# EAGLE library part 6250XX22121_62504422121 (library 61201021621_Eagle_WR-BHD_rev19b)
WR-BHD 2.00 mm Male Angled Box Header w. Lever KIND PROPERTIES: Pitch 2 mm Gender:Male MATERIAL PROPERTIES: Insulator Material:PBT Insulator Flammability Rating UL94 V-0 Insulator Color:Black Contact Material :Copper Alloy Contact Plating :Gold Contact Type: Stamped GENERAL INFORMATION: Operating Temperature:-40 °C up to +125 °C Compliance:RoHS Working Voltage: 250 V (AC) Withstanding Voltage:500 V (AC) Contact Resistance: 20 mΩ Insulation Resistance:1000 MΩ CERTIFICATION UL Approval:E323964 PACKAGING PROPERTIES Packaging :Tray <https://katalog.we-online.com/media/images/v2/o32938v209%20Family_WR-BHD_6250xx22121.jpg> Details see: https://katalog.we-online.com/en/em/BHD_2_00_MALE_ANGLED_BOX_HEADER_WITH_LEVER_6250XX22121 Updated by Yingchun,Shan 2019-11-04 2019 (C) Würth Elektronik
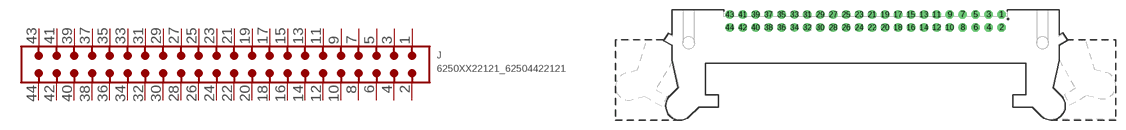
[diagram p107: symbol with the pads of 62504422121; footprint 62504422121]

Designator prefix J

## 6250XX22121_62504422121 (CONTACT-RESISTANCE: 20mOhm; DATASHEET-URL: https://katalog.we-online.com/em/datasheet/62504422121.pdf; GENDER: Male; IR: 2A; L: 59.7mm; MATES: WR-BHD 2.0mm Female IDC Connector with Strain Relief; MOUNT: THT; PACKAGING: Tray; PART-NUMBER: 62504422121; PINS: 44; PITCH: 2mm; TOL-R: max.; TYPE: Angled; WORKING-VOLTAGE: 250V(AC))  [62504422121]
1  1  pas
2  2  pas
3  3  pas
4  4  pas
5  5  pas
6  6  pas
7  7  pas
8  8  pas
9  9  pas
10  10  pas
11  11  pas
12  12  pas
13  13  pas
14  14  pas
15  15  pas
16  16  pas
17  17  pas
18  18  pas
19  19  pas
20  20  pas
21  21  pas
22  22  pas
23  23  pas
24  24  pas
25  25  pas
26  26  pas
27  27  pas
28  28  pas
29  29  pas
30  30  pas
31  31  pas
32  32  pas
33  33  pas
34  34  pas
35  35  pas
36  36  pas
37  37  pas
38  38  pas
39  39  pas
40  40  pas
41  41  pas
42  42  pas
43  43  pas
44  44  pas

## Footprint 62504422121 (pad centres in mm)
WR-BHD 2.00 mm Male Angled Box Header w. Lever,44 pins
drill 0.8: 1 21,3.4; 2 21,1.4; 3 19,3.4; 4 19,1.4; 5 17,3.4; 6 17,1.4; 7 15,3.4; 8 15,1.4; 9 13,3.4; 10 13,1.4; 11 11,3.4; 12 11,1.4; 13 9,3.4; 14 9,1.4; 15 7,3.4; 16 7,1.4; 17 5,3.4; 18 5,1.4; 19 3,3.4; 20 3,1.4; 21 1,3.4; 22 1,1.4; 23 -1,3.4; 24 -1,1.4; 25 -3,3.4; 26 -3,1.4; 27 -5,3.4; 28 -5,1.4; 29 -7,3.4; 30 -7,1.4; 31 -9,3.4; 32 -9,1.4; 33 -11,3.4; 34 -11,1.4; 35 -13,3.4; 36 -13,1.4; 37 -15,3.4; 38 -15,1.4; 39 -17,3.4; 40 -17,1.4; 41 -19,3.4; 42 -19,1.4; 43 -21,3.4; 44 -21,1.4